# Altium footprint library esp32.PcbLib: 52 footprints (part 2 of 4)
Each footprint in its own frame and in the unit in brackets; x right, y up, seen from the top. Pads: shape width x height; smd on the part's side, far side on the other; paste and mask are expansions set on the pad; w line width, h text height; cw(c..) or ccw(c..) is an arc to the next point about the centre after c.
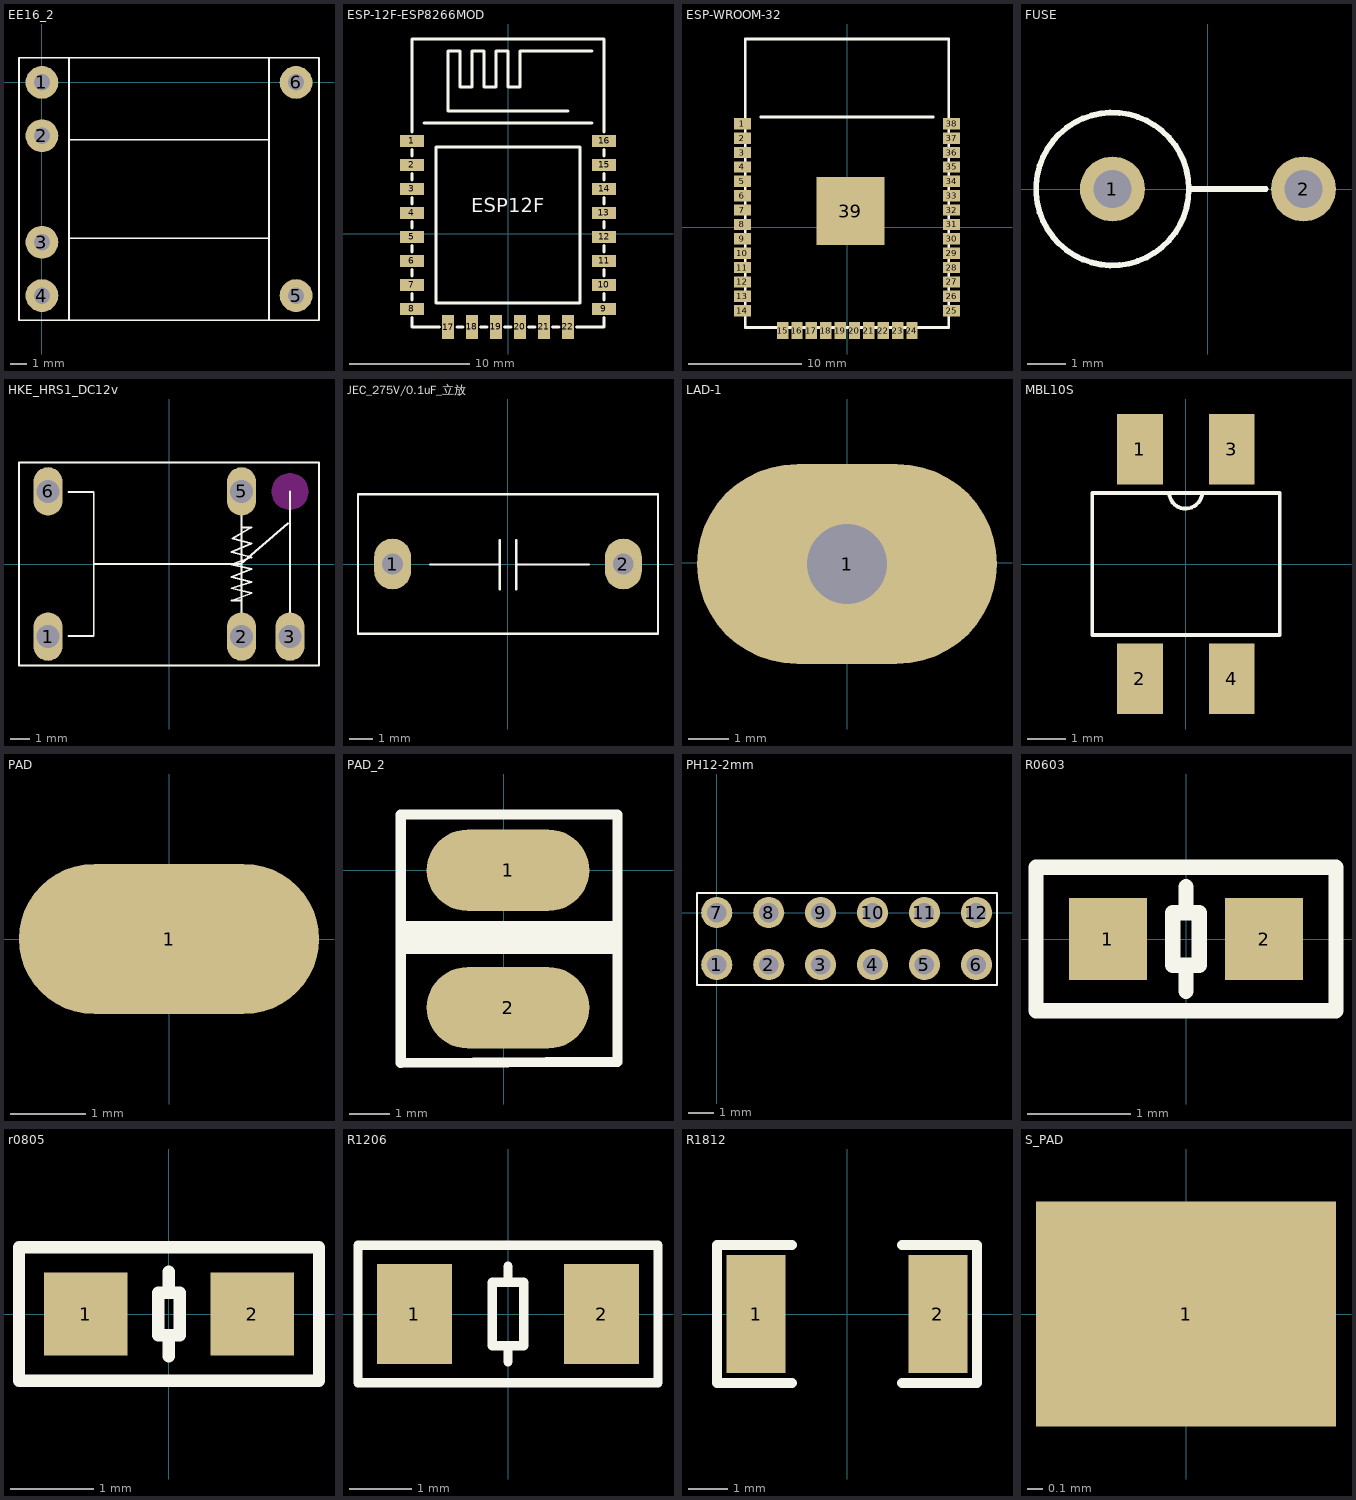
[diagram p1: the footprints below, top view; thin cyan lines are the x and y axes]

## EE16_2 [mm]
pads (6):
  round 2 hole 1: 1(0,0) 2(0,-3.25) 3(0,-9.75) 4(0,-13) 5(15.5,-13) 6(15.5,0)
Top Overlay:
  lines w0.1: 1.651,-14.478 1.651,1.5 1.778,1.5 ; 1.651,-9.495 13.843,-9.495 ; 1.651,-3.505 13.843,-3.505 ; 13.849,-14.478 13.849,1.5 ; -1.4,-14.5 0,-14.5 15.5,-14.5 16.9,-14.5 16.9,0 16.9,1.5 -1.4,1.5 -1.4,-14.5

## ESP-12F-ESP8266MOD [mm]
pads (22):
  rect 2x1 smd: 1(-8.002,7.751) 2(-8.002,5.751) 3(-8.002,3.751) 4(-8.002,1.751) 5(-8.002,-0.25) 6(-8.002,-2.25) 7(-8.002,-4.249) 8(-8.001,-6.249) 9(7.999,-6.249) 10(8,-4.249) 11(8.002,-2.25) 12(8.001,-0.25) 13(8,1.751) 14(8.001,3.751) 15(8,5.751) 16(8.001,7.751)
  rect 1x2 smd: 17(-5,-7.751) 18(-3.002,-7.749) 19(-1.003,-7.749) 20(0.998,-7.749) 21(2.997,-7.749) 22(4.997,-7.75)
Top Overlay:
  lines w0.254: -8.002,-6.981 -8.002,-7.749 -5.731,-7.749 ; -8.002,-5.518 -8.002,-4.981 ; -8.002,-3.518 -8.002,-2.981 ; -8.002,-1.518 -8.002,-0.98 ; -8.002,0.482 -8.002,1.02 ; -8.002,2.482 -8.002,3.02 ; -8.002,4.482 -8.002,5.019 ; -8.002,6.482 -8.002,7.019 ; -8.002,8.482 -8.002,16.251 7.998,16.251 7.998,8.482 ; -7.002,9.251 6.998,9.251 ; -4.269,-7.749 -3.733,-7.749 ; -2.271,-7.749 -1.734,-7.749 ; -0.272,-7.749 0.266,-7.749 ; 1.729,-7.749 2.266,-7.749 ; 3.728,-7.749 4.266,-7.749 ; 4.998,10.251 -5.002,10.251 -5.002,15.251 -4.002,15.251 -4.002,12.251 -3.002,12.251 -3.002,15.251 -2.002,15.251 -2.002,12.251 -1.002,12.251 -1.002,15.251 -0.002,15.251 -0.002,12.251 0.998,12.251 0.998,15.251 6.998,15.251 ; 5.728,-7.749 7.998,-7.749 7.998,-6.981 ; 7.998,-5.518 7.998,-4.981 ; 7.998,-3.518 7.998,-2.981 ; 7.998,-1.518 7.998,-0.98 ; 7.998,0.482 7.998,1.02 ; 7.998,2.482 7.998,3.02 ; 7.998,4.482 7.998,5.019 ; 7.998,6.482 7.998,7.019 ; -6.002,-5.749 5.998,-5.749 5.998,7.251 -6.002,7.251 -6.002,-5.749
  text "ESP12F" at -3.048,1.397 h2.03

## ESP-WROOM-32 [mil]
pads (39):
  rect 59.1x39.4 smd: 1(-364,359.5) 2(-364,309.5) 3(-364,259.5) 4(-364,209.5) 5(-364,159.5) 6(-364,109.5) 7(-364,59.5) 8(-364,9.5) 9(-364,-40.5) 10(-364,-90.5) 11(-364,-140.5) 12(-364,-190.5) 13(-364,-240.5) 14(-364,-290.5) 25(364,-290.5) 26(364,-240.5) 27(364,-190.5) 28(364,-140.5) 29(364,-90.5) 30(364,-40.5) 31(364,9.5) 32(364,59.5) 33(364,109.5) 34(364,159.5) 35(364,209.5) 36(364,259.5) 37(364,309.5) 38(364,359.5)
  rect 39.4x59.1 smd: 15(-224,-359.5) 16(-174,-359.5) 17(-124,-359.5) 18(-74,-359.5) 19(-24,-359.5) 20(26,-359.5) 21(76,-359.5) 22(126,-359.5) 23(176,-359.5) 24(226,-359.5)
  rect 236.2x236.2 smd: 39(12,55.5)
Top Overlay:
  lines w10: -300,383.5 300,383.5 ; -354,-349.5 -354,654.5 354,654.5 354,-349.5 -354,-349.5

## FUSE [mm]
pads (2):
  round 1.7 hole 1: 1(-2.5,0) 2(2.5,0)
Top Overlay:
  circle w0.15: c-2.5,0 r2
  lines w0.15: -0.5,0 1.513,0

## HKE_HRS1_DC12v [mm]
pads (5):
  oval 1.5x2.5 hole 1.2: 1(-6.25,-3.75) 2(3.75,-3.75) 3(6.25,-3.75) 5(3.75,3.75) 6(-6.25,3.75)
Top Overlay:
  lines w0.1: -5.183,-3.725 -3.888,-3.725 -3.888,3.725 -5.183,3.725 ; -3.888,0 3.716,0 6.145,2.092 ; 3.75,-3.75 3.75,3.75 ; 3.75,-1.896 3.234,-1.896 4.266,-1.508 3.234,-1.254 4.266,-0.924 3.234,-0.67 4.266,-0.263 3.234,-0.035 4.266,0.346 3.234,0.626 4.266,1.058 3.275,1.312 4.266,1.896 3.75,1.896 ; 6.25,-3.75 6.25,3.747 ; -7.75,-5.25 7.75,-5.25 7.75,5.25 -7.75,5.25 -7.75,-5.25
Keep-Out Layer:
  board cut-out: 5.314,3.747 5.314,3.655 5.35,3.474 5.421,3.304 5.523,3.15 5.654,3.02 5.807,2.918 5.977,2.847 6.158,2.811 6.25,2.811 6.342,2.811 6.523,2.847 6.693,2.918 6.846,3.02 6.977,3.15 7.079,3.304 7.15,3.474 7.186,3.655 7.186,3.747 7.186,3.839 7.15,4.02 7.079,4.19 6.977,4.343 6.846,4.474 6.693,4.576 6.523,4.646 6.342,4.682 6.25,4.682 6.158,4.682 5.977,4.646 5.807,4.576 5.654,4.474 5.523,4.343 5.421,4.19 5.35,4.02 5.314,3.839

## JEC_275V/0.1uF_立放 [mm]
pads (2):
  oval 1.6x2.2 hole 0.9: 1(-5,0) 2(5,0)
Top Overlay:
  lines w0.1: -3.378,-0.025 -0.356,-0.025 ; -0.356,-1.092 -0.356,1.041 ; 0.356,-1.092 0.356,1.041 ; 0.356,-0.025 3.505,-0.025 ; -6.498,-3.023 6.502,-3.023 6.502,3.023 -6.498,3.023 -6.498,-3.023

## LAD-1 [mm]
pads (1):
  oval 7.5x5 hole 2 square unplated: 1(0,-0.025)

## MBL10S [mm]
pads (4):
  rect 1.2x1.84 smd: 1(-1.2,3) 2(-1.2,-3) 3(1.2,3) 4(1.2,-3)
Top Overlay:
  lines w0.1: -0.432,1.854 ccw(c-0.013,1.867) 0,1.448 ; -0.051,1.448 ccw(c-0.013,1.892) 0.432,1.854 ; -2.445,-1.854 -2.445,1.854 2.455,1.854 2.455,-1.854 -2.445,-1.854

## PAD [mm]
pads (1):
  oval 4x2 smd: 1(0,0)

## PAD_2 [mm]
pads (2):
  oval 4x2 smd: 1(0.102,0) 2(0.102,-3.378)
Top Overlay:
  rectangle: -2.591,-2.057 2.794,-1.245
  lines w0.254: -2.54,-4.737 -2.54,0.356 -2.54,1.372 1.626,1.372 2.794,1.372 2.794,-4.711 -2.54,-4.737

## PH12-2mm [mm]
pads (12):
  round 1.2 hole 0.75 unplated: 1(0,-2) 2(2,-2) 3(4,-2) 4(6,-2) 5(8,-2) 6(10,-2) 7(0,0) 8(2,0) 9(4,0) 10(6,0) 11(8,0) 12(10,0)
Top Overlay:
  lines w0.08: -0.762,-2.794 10.795,-2.794 10.795,0.762 -0.762,0.762 -0.762,-2.794

## R0603 [mm]
pads (2):
  rect 0.76x0.8 smd: 1(-0.76,0) 2(0.76,0)
Top Overlay:
  lines w0.15: 0,-0.508 0,-0.316 ; 0,0.316 0,0.508 ; -1.46,-0.7 -1.46,0.7 1.46,0.7 1.46,-0.7 -1.46,-0.7 ; -0.127,-0.254 0.127,-0.254 0.127,0.254 -0.127,0.254 -0.127,-0.254

## r0805 [mm]
pads (2):
  rect 1x1 smd: 1(-1,0) 2(1,0)
Top Overlay:
  lines w0.15: 0,-0.508 0,-0.316 ; 0,0.316 0,0.508 ; -1.8,-0.8 -1.8,0.8 1.8,0.8 1.8,-0.8 -1.8,-0.8 ; -0.127,-0.254 -0.127,0.254 0.127,0.254 0.127,-0.254 -0.127,-0.254

## R1206 [mm]
pads (2):
  rect 1.2x1.6 smd: 1(-1.5,0) 2(1.5,0)
Top Overlay:
  lines w0.15: 0,-0.762 0,-0.508 ; 0,0.508 0,0.762 ; -2.4,-1.1 -2.4,1.1 2.4,1.1 2.4,-1.1 -2.4,-1.1 ; -0.254,-0.508 0.254,-0.508 0.254,0.508 -0.254,0.508 -0.254,-0.508

## R1812 [mm]
pads (2):
  rect 1.5x3 smd: 1(-2.305,0) 2(2.305,0)
Top Overlay:
  lines w0.254: -1.4,-1.75 -3.3,-1.75 -3.3,1.75 -1.4,1.75 ; 1.4,-1.75 3.3,-1.75 3.3,1.75 1.4,1.75

## S_PAD [mm]
pads (1):
  rect 2x1.5 smd: 1(0,0)